# EAGLE library part ESP32-WROOM-32U (library ESP32-WROOM-32U)
Check availability <https://pricing.snapeda.com/parts/ESP32-WROOM-32U/Espressif%20Systems/view-part?ref=eda>
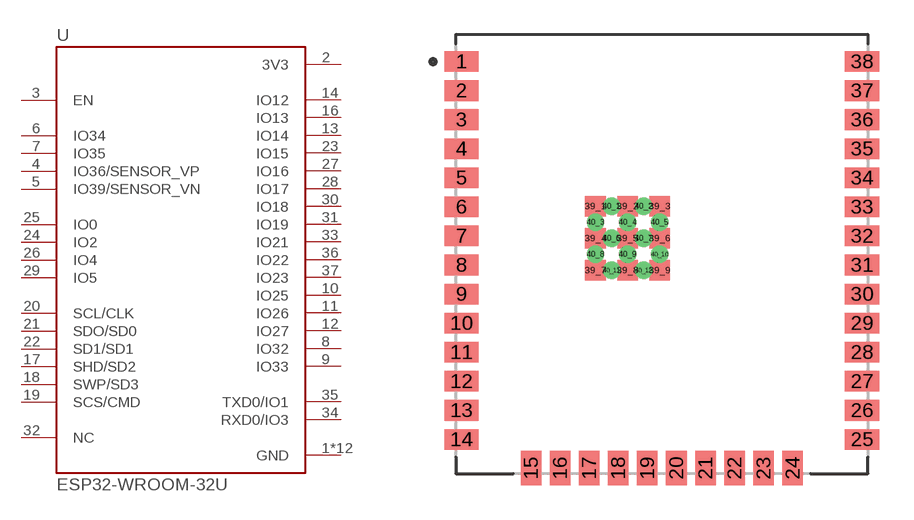
[diagram p0: symbol with the pads of XCVR_ESP32-WROOM-32U; footprint XCVR_ESP32-WROOM-32U]

Designator prefix U

## ESP32-WROOM-32U (Availability: Not in stock; Check_prices: https://www.snapeda.com/parts/ESP32-WROOM-32U/Espressif+Systems/view-part/?ref=eda; Description: Bluetooth, WiFi 802.11b/g/n, Bluetooth v4.2 +EDR, Class 1, 2 and 3 Transceiver Module 2.4GHz ~ 2.5GHz Antenna Not Included, U.FL Surface Mount; MF: Espressif Systems; MP: ESP32-WROOM-32U; Package: NON STANDARD-39 Espressif; Price: None; SnapEDA_Link: https://www.snapeda.com/parts/ESP32-WROOM-32U/Espressif+Systems/view-part/?ref=snap)  [XCVR_ESP32-WROOM-32U]
1  GND  pwr
2  3V3  pwr
3  EN  in
4  IO36/SENSOR_VP  in
5  IO39/SENSOR_VN  in
6  IO34  in
7  IO35  in
8  IO32
9  IO33
10  IO25
11  IO26
12  IO27
13  IO14
14  IO12
15  GND  pwr
16  IO13
17  SHD/SD2
18  SWP/SD3
19  SCS/CMD
20  SCL/CLK
21  SDO/SD0
22  SD1/SD1
23  IO15
24  IO2
25  IO0
26  IO4
27  IO16
28  IO17
29  IO5
30  IO18
31  IO19
32  NC  nc
33  IO21
34  RXD0/IO3
35  TXD0/IO1
36  IO22
37  IO23
38  GND  pwr
39_1  GND  pwr
39_2  GND  pwr
39_3  GND  pwr
39_4  GND  pwr
39_5  GND  pwr
39_6  GND  pwr
39_7  GND  pwr
39_8  GND  pwr
39_9  GND  pwr

## Footprint XCVR_ESP32-WROOM-32U (pad centres in mm)
smd 1.5 x 0.9: 1 -8.75,8.41; 2 -8.75,7.14; 3 -8.75,5.87; 4 -8.75,4.6; 5 -8.75,3.33; 6 -8.75,2.06; 7 -8.75,0.79; 8 -8.75,-0.48; 9 -8.75,-1.75; 10 -8.75,-3.02; 11 -8.75,-4.29; 12 -8.75,-5.56; 13 -8.75,-6.83; 14 -8.75,-8.1; 25 8.75,-8.1; 26 8.75,-6.83; 27 8.75,-5.56; 28 8.75,-4.29; 29 8.75,-3.02; 30 8.75,-1.75; 31 8.75,-0.48; 32 8.75,0.79; 33 8.75,2.06; 34 8.75,3.33; 35 8.75,4.6; 36 8.75,5.87; 37 8.75,7.14; 38 8.75,8.41
smd 0.9 x 1.5: 15 -5.715,-9.35; 16 -4.445,-9.35; 17 -3.175,-9.35; 18 -1.905,-9.35; 19 -0.635,-9.35; 20 0.635,-9.35; 21 1.905,-9.35; 22 3.175,-9.35; 23 4.445,-9.35; 24 5.715,-9.35
smd 0.9 x 0.9: 39_1 -2.9,2.09; 39_2 -1.5,2.09; 39_3 -0.1,2.09; 39_4 -2.9,0.69; 39_5 -1.5,0.69; 39_6 -0.1,0.69; 39_7 -2.9,-0.71; 39_8 -1.5,-0.71; 39_9 -0.1,-0.71
drill 0.25 pad 0.35: 40_1 -2.2,2.09; 40_2 -0.8,2.09; 40_3 -2.9,1.39; 40_4 -1.5,1.39; 40_5 -0.1,1.39; 40_6 -2.2,0.69; 40_7 -0.8,0.69; 40_8 -2.9,-0.01; 40_9 -1.5,-0.01; 40_10 -0.1,-0.01; 40_11 -2.2,-0.71; 40_12 -0.8,-0.71